# Altium integrated library TI Power Management Linear Regulator Dual Channel LDO.IntLib: 299 symbols (part 6 of 15)
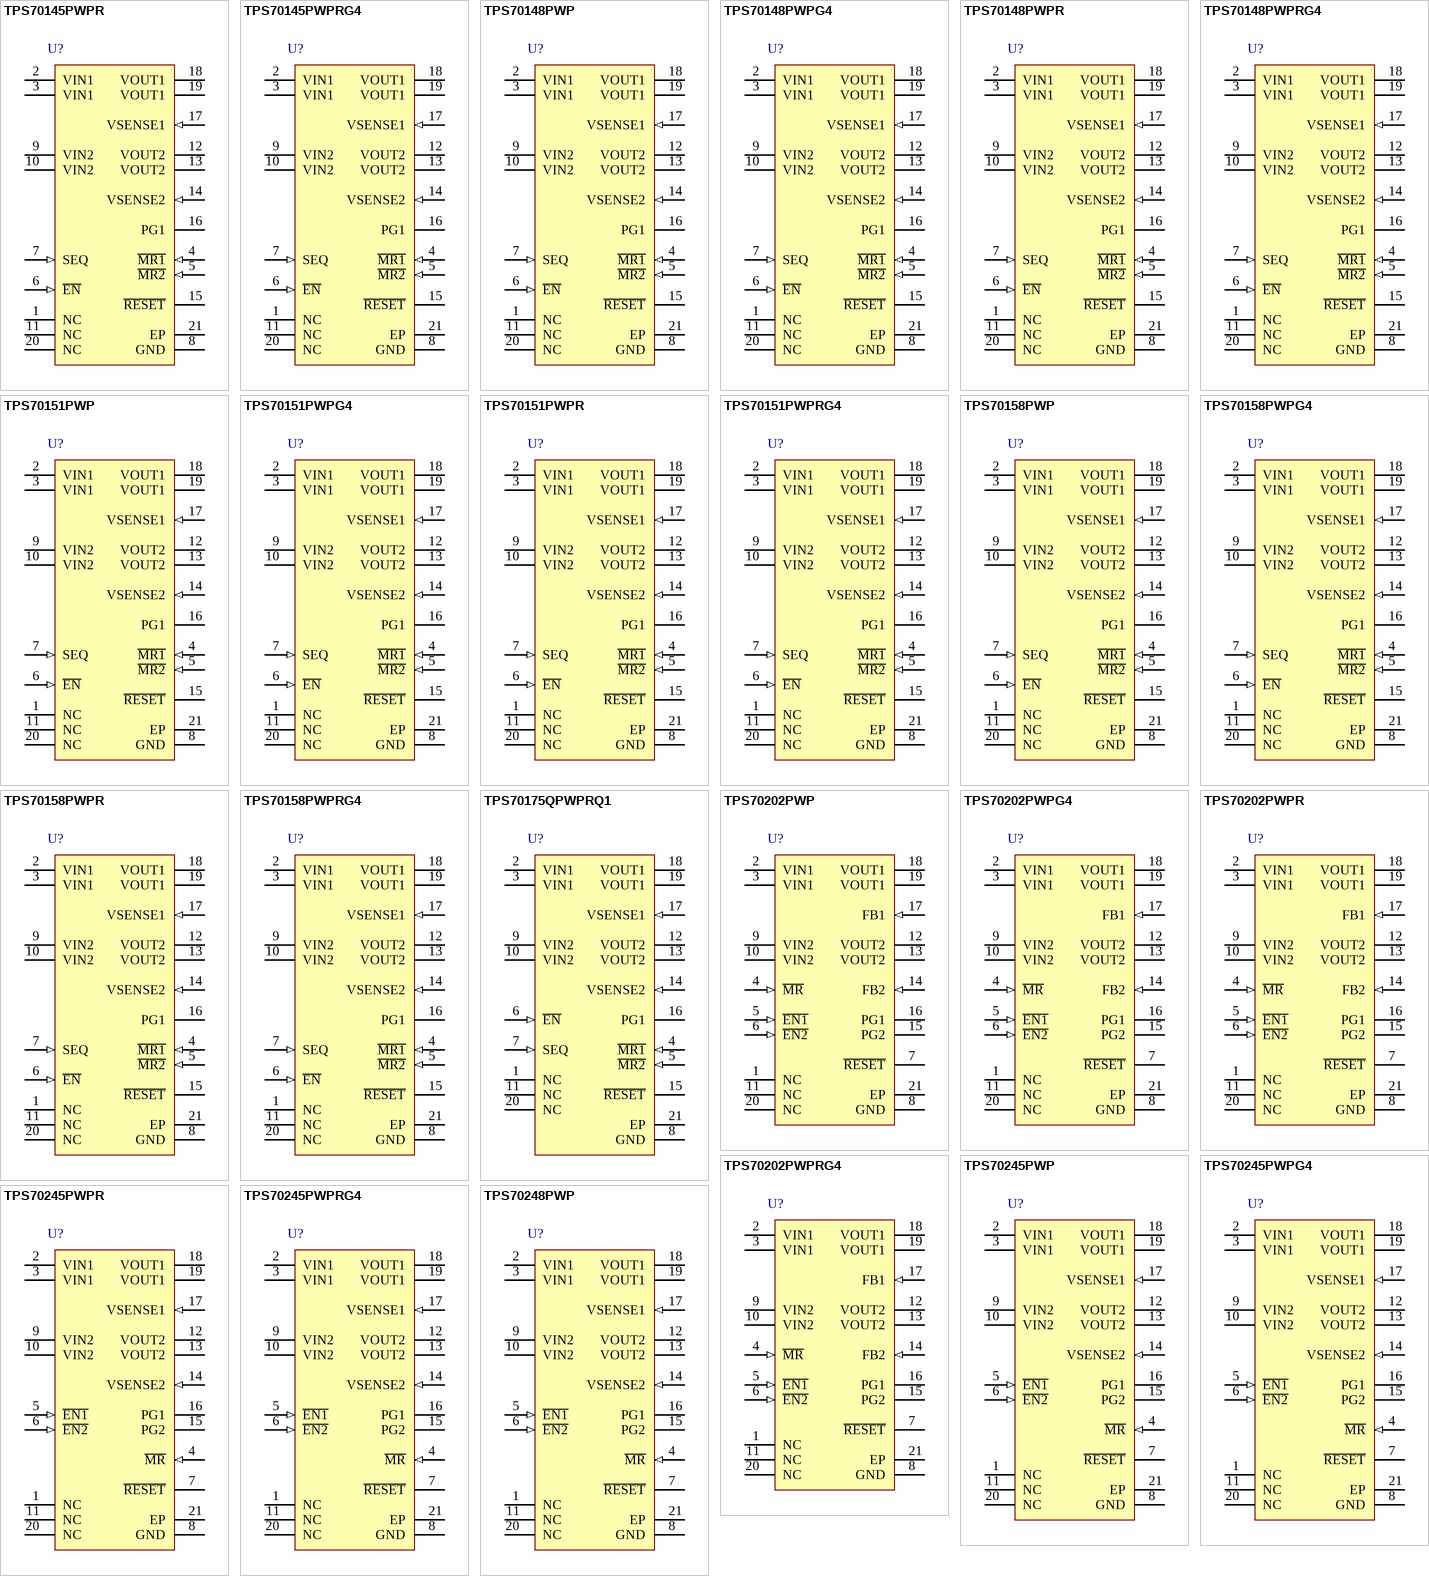
[diagram p16: symbols TPS70145PWPR to TPS70248PWP]

## TPS70148PWPR
designator U?
Dual Output LDO, 500 mA, Fixed 3.3, 1.5 V Output, 2.7 to 6 V Input, 20-pin HTSSOP (PWP), -40 to 125 degC, Green (RoHS & no Sb/Br); Manufacturer: Texas Instruments; PartNumber: TPS70148PWPR; Iout(Max)(A): 0.5; Iout2(A): 0.2; Iq(Typ)(mA): 0.19; SubFamily: Dual Channel LDO; Vdo(Typ)(mV): 170; Vin(Max)(V): 6; Vin(Min)(V): 2.7; Vout(Max)(V): 3.3; Vout2(Max)(V): 1.5; DatasheetVersion: SLVS222I; PackageVersion: 4073225-4/I; PackageReference: PWP20-3005X2005TP; PackageDescription: 20-Pin Plastic Small Outline, Body 6.50 x 4.40 mm, Pitch 0.65 mm; Supplier 1: Digi-Key; Supplier Part Number 1: TPS70148PWPR-ND; Supplier 2: Mouser; Supplier Part Number 2: 595-TPS70148PWPR; Eco-Plan: Green (RoHS & no Sb/Br); Fixed Output Options(V): 3.3, 1.5; Vout(Min)(V): 3.3; Vout2(Min)(V): 1.5; Mounting Technology: Surface Mount; Code_JEDEC: MO-153; ComponentLink1Description: Manufacturer URL; ComponentLink1URL: http://www.ti.com/; ComponentLink2Description: Datasheet; ComponentLink2URL: http://www.ti.com/general/docs/lit/getliterature.tsp?genericPartNumber=TPS70148&fileType=pdf; ComponentLink3Description: Package Specification; ComponentLink3URL: http://www.ti.com/lit/ml/mhts001g/mhts001g.pdf
footprint TI-PWP20-3005X2005TP_N (SOP, 20-Leads, Body 6.5x4.4mm, Pitch 0.65mm, Thermal Pad 3.005 x 2.005mm, IPC Medium Density)
footprint TI-PWP20-3005X2005TP_L (SOP, 20-Leads, Body 6.5x4.4mm, Pitch 0.65mm, Thermal Pad 3.005 x 2.005mm, IPC High Density)
footprint TI-PWP20-3005X2005TP_M (SOP, 20-Leads, Body 6.5x4.4mm, Pitch 0.65mm, Thermal Pad 3.005 x 2.005mm, IPC Low Density)
pins: 1 NC "No connection", 2 VIN1 (power) "Input voltage of regulator 1", 3 VIN1 (power) "Input voltage of regulator 1", 4 ~{MR1} (in) "Manual reset input 1, active low, pulled up internally", 5 ~{MR2} (in) "Manual reset input 2, active low, pulled up internally", 6 ~{EN} (in) "Active low enable", 7 SEQ (in) "Power-up sequence control: SEQ = High, VOUT2 powers up first; SEQ = Low, VOUT1 powers up first. SEQ terminal pulled up internally.", 8 GND (power) "Ground", 9 VIN2 (power) "Input voltage of regulator 2", 10 VIN2 (power) "Input voltage of regulator 2", 11 NC "No connection", 12 VOUT2 (power) "Output voltage of regulator 2", 13 VOUT2 (power) "Output voltage of regulator 2", 14 VSENSE2 (in) "Regulator 2 output voltage sense", 15 ~{RESET} (hiz) "Open drain output, SVS (power-on reset) signal, active low", 16 PG1 (hiz) "Open drain output, low when VOUT1 voltage is less than 95% of the nominal regulated voltage", 17 VSENSE1 (in) "Regulator 1 output voltage sense", 18 VOUT1 (power) "Output voltage of regulator 1", 19 VOUT1 (power) "Output voltage of regulator 1", 20 NC "No connection", 21 EP (power) "Exposed Thermal Pad"

## TPS70148PWPRG4
designator U?
Dual Output LDO, 500 mA, Fixed 3.3, 1.5 V Output, 2.7 to 6 V Input, 20-pin HTSSOP (PWP), -40 to 125 degC, Green (RoHS & no Sb/Br); Manufacturer: Texas Instruments; PartNumber: TPS70148PWPRG4; Iout(Max)(A): 0.5; Iout2(A): 0.2; Iq(Typ)(mA): 0.19; SubFamily: Dual Channel LDO; Vdo(Typ)(mV): 170; Vin(Max)(V): 6; Vin(Min)(V): 2.7; Vout(Max)(V): 3.3; Vout2(Max)(V): 1.5; DatasheetVersion: SLVS222I; PackageVersion: 4073225-4/I; PackageReference: PWP20-3005X2005TP; PackageDescription: 20-Pin Plastic Small Outline, Body 6.50 x 4.40 mm, Pitch 0.65 mm; Supplier 1: Digi-Key; Supplier Part Number 1: TPS70148PWPRG4-ND; Supplier 2: Newark; Supplier Part Number 2: 33K7654; Supplier 3: Mouser; Supplier Part Number 3: 595-TPS70148PWPRG4; Eco-Plan: Green (RoHS & no Sb/Br); Fixed Output Options(V): 3.3, 1.5; Vout(Min)(V): 3.3; Vout2(Min)(V): 1.5; Mounting Technology: Surface Mount; Code_JEDEC: MO-153; ComponentLink1Description: Manufacturer URL; ComponentLink1URL: http://www.ti.com/; ComponentLink2Description: Datasheet; ComponentLink2URL: http://www.ti.com/general/docs/lit/getliterature.tsp?genericPartNumber=TPS70148&fileType=pdf; ComponentLink3Description: Package Specification; ComponentLink3URL: http://www.ti.com/lit/ml/mhts001g/mhts001g.pdf
footprint TI-PWP20-3005X2005TP_N (SOP, 20-Leads, Body 6.5x4.4mm, Pitch 0.65mm, Thermal Pad 3.005 x 2.005mm, IPC Medium Density)
footprint TI-PWP20-3005X2005TP_L (SOP, 20-Leads, Body 6.5x4.4mm, Pitch 0.65mm, Thermal Pad 3.005 x 2.005mm, IPC High Density)
footprint TI-PWP20-3005X2005TP_M (SOP, 20-Leads, Body 6.5x4.4mm, Pitch 0.65mm, Thermal Pad 3.005 x 2.005mm, IPC Low Density)
pins: 1 NC "No connection", 2 VIN1 (power) "Input voltage of regulator 1", 3 VIN1 (power) "Input voltage of regulator 1", 4 ~{MR1} (in) "Manual reset input 1, active low, pulled up internally", 5 ~{MR2} (in) "Manual reset input 2, active low, pulled up internally", 6 ~{EN} (in) "Active low enable", 7 SEQ (in) "Power-up sequence control: SEQ = High, VOUT2 powers up first; SEQ = Low, VOUT1 powers up first. SEQ terminal pulled up internally.", 8 GND (power) "Ground", 9 VIN2 (power) "Input voltage of regulator 2", 10 VIN2 (power) "Input voltage of regulator 2", 11 NC "No connection", 12 VOUT2 (power) "Output voltage of regulator 2", 13 VOUT2 (power) "Output voltage of regulator 2", 14 VSENSE2 (in) "Regulator 2 output voltage sense", 15 ~{RESET} (hiz) "Open drain output, SVS (power-on reset) signal, active low", 16 PG1 (hiz) "Open drain output, low when VOUT1 voltage is less than 95% of the nominal regulated voltage", 17 VSENSE1 (in) "Regulator 1 output voltage sense", 18 VOUT1 (power) "Output voltage of regulator 1", 19 VOUT1 (power) "Output voltage of regulator 1", 20 NC "No connection", 21 EP (power) "Exposed Thermal Pad"

## TPS70151PWP
designator U?
Dual Output LDO, 500 mA, Fixed 3.3, 1.8 V Output, 2.7 to 6 V Input, 20-pin HTSSOP (PWP), -40 to 125 degC, Green (RoHS & no Sb/Br); Manufacturer: Texas Instruments; PartNumber: TPS70151PWP; Iout(Max)(A): 0.5; Iout2(A): 0.2; Iq(Typ)(mA): 0.19; SubFamily: Dual Channel LDO; Vdo(Typ)(mV): 170; Vin(Max)(V): 6; Vin(Min)(V): 2.7; Vout(Max)(V): 3.3; Vout2(Max)(V): 1.8; DatasheetVersion: SLVS222I; PackageVersion: 4073225-4/I; PackageReference: PWP20-3005X2005TP; PackageDescription: 20-Pin Plastic Small Outline, Body 6.50 x 4.40 mm, Pitch 0.65 mm; Supplier 1: Digi-Key; Supplier Part Number 1: 296-2655-5-ND; Supplier 2: Farnell; Supplier Part Number 2: 3858066; Supplier 3: Newark; Supplier Part Number 3: 19C9069; Supplier 4: Mouser; Supplier Part Number 4: 595-TPS70151PWP; Eco-Plan: Green (RoHS & no Sb/Br); Fixed Output Options(V): 3.3, 1.8; Vout(Min)(V): 3.3; Vout2(Min)(V): 1.8; Mounting Technology: Surface Mount; Code_JEDEC: MO-153; ComponentLink1Description: Manufacturer URL; ComponentLink1URL: http://www.ti.com/; ComponentLink2Description: Datasheet; ComponentLink2URL: http://www.ti.com/general/docs/lit/getliterature.tsp?genericPartNumber=TPS70151&fileType=pdf; ComponentLink3Description: Package Specification; ComponentLink3URL: http://www.ti.com/lit/ml/mhts001g/mhts001g.pdf
footprint TI-PWP20-3005X2005TP_N (SOP, 20-Leads, Body 6.5x4.4mm, Pitch 0.65mm, Thermal Pad 3.005 x 2.005mm, IPC Medium Density)
footprint TI-PWP20-3005X2005TP_L (SOP, 20-Leads, Body 6.5x4.4mm, Pitch 0.65mm, Thermal Pad 3.005 x 2.005mm, IPC High Density)
footprint TI-PWP20-3005X2005TP_M (SOP, 20-Leads, Body 6.5x4.4mm, Pitch 0.65mm, Thermal Pad 3.005 x 2.005mm, IPC Low Density)
pins: 1 NC "No connection", 2 VIN1 (power) "Input voltage of regulator 1", 3 VIN1 (power) "Input voltage of regulator 1", 4 ~{MR1} (in) "Manual reset input 1, active low, pulled up internally", 5 ~{MR2} (in) "Manual reset input 2, active low, pulled up internally", 6 ~{EN} (in) "Active low enable", 7 SEQ (in) "Power-up sequence control: SEQ = High, VOUT2 powers up first; SEQ = Low, VOUT1 powers up first. SEQ terminal pulled up internally.", 8 GND (power) "Ground", 9 VIN2 (power) "Input voltage of regulator 2", 10 VIN2 (power) "Input voltage of regulator 2", 11 NC "No connection", 12 VOUT2 (power) "Output voltage of regulator 2", 13 VOUT2 (power) "Output voltage of regulator 2", 14 VSENSE2 (in) "Regulator 2 output voltage sense", 15 ~{RESET} (hiz) "Open drain output, SVS (power-on reset) signal, active low", 16 PG1 (hiz) "Open drain output, low when VOUT1 voltage is less than 95% of the nominal regulated voltage", 17 VSENSE1 (in) "Regulator 1 output voltage sense", 18 VOUT1 (power) "Output voltage of regulator 1", 19 VOUT1 (power) "Output voltage of regulator 1", 20 NC "No connection", 21 EP "Exposed Thermal Pad"

## TPS70151PWPG4
designator U?
Dual Output LDO, 500 mA, Fixed 3.3, 1.8 V Output, 2.7 to 6 V Input, 20-pin HTSSOP (PWP), -40 to 125 degC, Green (RoHS & no Sb/Br); Manufacturer: Texas Instruments; PartNumber: TPS70151PWPG4; Iout(Max)(A): 0.5; Iout2(A): 0.2; Iq(Typ)(mA): 0.19; SubFamily: Dual Channel LDO; Vdo(Typ)(mV): 170; Vin(Max)(V): 6; Vin(Min)(V): 2.7; Vout(Max)(V): 3.3; Vout2(Max)(V): 1.8; DatasheetVersion: SLVS222I; PackageVersion: 4073225-4/I; PackageReference: PWP20-3005X2005TP; PackageDescription: 20-Pin Plastic Small Outline, Body 6.50 x 4.40 mm, Pitch 0.65 mm; Supplier 1: Digi-Key; Supplier Part Number 1: TPS70151PWPG4-ND; Supplier 2: Farnell; Supplier Part Number 2: 1234736; Supplier 3: Newark; Supplier Part Number 3: 13M3295; Supplier 4: Newark; Supplier Part Number 4: 54K1758; Supplier 5: Mouser; Supplier Part Number 5: 595-TPS70151PWPG4; Eco-Plan: Green (RoHS & no Sb/Br); Fixed Output Options(V): 3.3, 1.8; Vout(Min)(V): 3.3; Vout2(Min)(V): 1.8; Mounting Technology: Surface Mount; Code_JEDEC: MO-153; ComponentLink1Description: Manufacturer URL; ComponentLink1URL: http://www.ti.com/; ComponentLink2Description: Datasheet; ComponentLink2URL: http://www.ti.com/general/docs/lit/getliterature.tsp?genericPartNumber=TPS70151&fileType=pdf; ComponentLink3Description: Package Specification; ComponentLink3URL: http://www.ti.com/lit/ml/mhts001g/mhts001g.pdf
footprint TI-PWP20-3005X2005TP_N (SOP, 20-Leads, Body 6.5x4.4mm, Pitch 0.65mm, Thermal Pad 3.005 x 2.005mm, IPC Medium Density)
footprint TI-PWP20-3005X2005TP_L (SOP, 20-Leads, Body 6.5x4.4mm, Pitch 0.65mm, Thermal Pad 3.005 x 2.005mm, IPC High Density)
footprint TI-PWP20-3005X2005TP_M (SOP, 20-Leads, Body 6.5x4.4mm, Pitch 0.65mm, Thermal Pad 3.005 x 2.005mm, IPC Low Density)
pins: 1 NC "No connection", 2 VIN1 (power) "Input voltage of regulator 1", 3 VIN1 (power) "Input voltage of regulator 1", 4 ~{MR1} (in) "Manual reset input 1, active low, pulled up internally", 5 ~{MR2} (in) "Manual reset input 2, active low, pulled up internally", 6 ~{EN} (in) "Active low enable", 7 SEQ (in) "Power-up sequence control: SEQ = High, VOUT2 powers up first; SEQ = Low, VOUT1 powers up first. SEQ terminal pulled up internally.", 8 GND (power) "Ground", 9 VIN2 (power) "Input voltage of regulator 2", 10 VIN2 (power) "Input voltage of regulator 2", 11 NC "No connection", 12 VOUT2 (power) "Output voltage of regulator 2", 13 VOUT2 (power) "Output voltage of regulator 2", 14 VSENSE2 (in) "Regulator 2 output voltage sense", 15 ~{RESET} (hiz) "Open drain output, SVS (power-on reset) signal, active low", 16 PG1 (hiz) "Open drain output, low when VOUT1 voltage is less than 95% of the nominal regulated voltage", 17 VSENSE1 (in) "Regulator 1 output voltage sense", 18 VOUT1 (power) "Output voltage of regulator 1", 19 VOUT1 (power) "Output voltage of regulator 1", 20 NC "No connection", 21 EP "Exposed Thermal Pad"

## TPS70151PWPR
designator U?
Dual Output LDO, 500 mA, Fixed 3.3, 1.8 V Output, 2.7 to 6 V Input, 20-pin HTSSOP (PWP), -40 to 125 degC, Green (RoHS & no Sb/Br); Manufacturer: Texas Instruments; PartNumber: TPS70151PWPR; Iout(Max)(A): 0.5; Iout2(A): 0.2; Iq(Typ)(mA): 0.19; SubFamily: Dual Channel LDO; Vdo(Typ)(mV): 170; Vin(Max)(V): 6; Vin(Min)(V): 2.7; Vout(Max)(V): 3.3; Vout2(Max)(V): 1.8; DatasheetVersion: SLVS222I; PackageVersion: 4073225-4/I; PackageReference: PWP20-3005X2005TP; PackageDescription: 20-Pin Plastic Small Outline, Body 6.50 x 4.40 mm, Pitch 0.65 mm; Supplier 1: Digi-Key; Supplier Part Number 1: 296-27039-2-ND; Supplier 2: Digi-Key; Supplier Part Number 2: 296-27039-1-ND; Supplier 3: Digi-Key; Supplier Part Number 3: 296-27039-6-ND; Supplier 4: Newark; Supplier Part Number 4: 77C0747; Supplier 5: Mouser; Supplier Part Number 5: 595-TPS70151PWPR; Eco-Plan: Green (RoHS & no Sb/Br); Fixed Output Options(V): 3.3, 1.8; Vout(Min)(V): 3.3; Vout2(Min)(V): 1.8; Mounting Technology: Surface Mount; Code_JEDEC: MO-153; ComponentLink1Description: Manufacturer URL; ComponentLink1URL: http://www.ti.com/; ComponentLink2Description: Datasheet; ComponentLink2URL: http://www.ti.com/general/docs/lit/getliterature.tsp?genericPartNumber=TPS70151&fileType=pdf; ComponentLink3Description: Package Specification; ComponentLink3URL: http://www.ti.com/lit/ml/mhts001g/mhts001g.pdf
footprint TI-PWP20-3005X2005TP_N (SOP, 20-Leads, Body 6.5x4.4mm, Pitch 0.65mm, Thermal Pad 3.005 x 2.005mm, IPC Medium Density)
footprint TI-PWP20-3005X2005TP_L (SOP, 20-Leads, Body 6.5x4.4mm, Pitch 0.65mm, Thermal Pad 3.005 x 2.005mm, IPC High Density)
footprint TI-PWP20-3005X2005TP_M (SOP, 20-Leads, Body 6.5x4.4mm, Pitch 0.65mm, Thermal Pad 3.005 x 2.005mm, IPC Low Density)
pins: 1 NC "No connection", 2 VIN1 (power) "Input voltage of regulator 1", 3 VIN1 (power) "Input voltage of regulator 1", 4 ~{MR1} (in) "Manual reset input 1, active low, pulled up internally", 5 ~{MR2} (in) "Manual reset input 2, active low, pulled up internally", 6 ~{EN} (in) "Active low enable", 7 SEQ (in) "Power-up sequence control: SEQ = High, VOUT2 powers up first; SEQ = Low, VOUT1 powers up first. SEQ terminal pulled up internally.", 8 GND (power) "Ground", 9 VIN2 (power) "Input voltage of regulator 2", 10 VIN2 (power) "Input voltage of regulator 2", 11 NC "No connection", 12 VOUT2 (power) "Output voltage of regulator 2", 13 VOUT2 (power) "Output voltage of regulator 2", 14 VSENSE2 (in) "Regulator 2 output voltage sense", 15 ~{RESET} (hiz) "Open drain output, SVS (power-on reset) signal, active low", 16 PG1 (hiz) "Open drain output, low when VOUT1 voltage is less than 95% of the nominal regulated voltage", 17 VSENSE1 (in) "Regulator 1 output voltage sense", 18 VOUT1 (power) "Output voltage of regulator 1", 19 VOUT1 (power) "Output voltage of regulator 1", 20 NC "No connection", 21 EP "Exposed Thermal Pad"

## TPS70151PWPRG4
designator U?
Dual Output LDO, 500 mA, Fixed 3.3, 1.8 V Output, 2.7 to 6 V Input, 20-pin HTSSOP (PWP), -40 to 125 degC, Green (RoHS & no Sb/Br); Manufacturer: Texas Instruments; PartNumber: TPS70151PWPRG4; Iout(Max)(A): 0.5; Iout2(A): 0.2; Iq(Typ)(mA): 0.19; SubFamily: Dual Channel LDO; Vdo(Typ)(mV): 170; Vin(Max)(V): 6; Vin(Min)(V): 2.7; Vout(Max)(V): 3.3; Vout2(Max)(V): 1.8; DatasheetVersion: SLVS222I; PackageVersion: 4073225-4/I; PackageReference: PWP20-3005X2005TP; PackageDescription: 20-Pin Plastic Small Outline, Body 6.50 x 4.40 mm, Pitch 0.65 mm; Supplier 1: Digi-Key; Supplier Part Number 1: TPS70151PWPRG4-ND; Supplier 2: Mouser; Supplier Part Number 2: 595-TPS70151PWPRG4; Eco-Plan: Green (RoHS & no Sb/Br); Fixed Output Options(V): 3.3, 1.8; Vout(Min)(V): 3.3; Vout2(Min)(V): 1.8; Mounting Technology: Surface Mount; Code_JEDEC: MO-153; ComponentLink1Description: Manufacturer URL; ComponentLink1URL: http://www.ti.com/; ComponentLink2Description: Datasheet; ComponentLink2URL: http://www.ti.com/general/docs/lit/getliterature.tsp?genericPartNumber=TPS70151&fileType=pdf; ComponentLink3Description: Package Specification; ComponentLink3URL: http://www.ti.com/lit/ml/mhts001g/mhts001g.pdf
footprint TI-PWP20-3005X2005TP_N (SOP, 20-Leads, Body 6.5x4.4mm, Pitch 0.65mm, Thermal Pad 3.005 x 2.005mm, IPC Medium Density)
footprint TI-PWP20-3005X2005TP_L (SOP, 20-Leads, Body 6.5x4.4mm, Pitch 0.65mm, Thermal Pad 3.005 x 2.005mm, IPC High Density)
footprint TI-PWP20-3005X2005TP_M (SOP, 20-Leads, Body 6.5x4.4mm, Pitch 0.65mm, Thermal Pad 3.005 x 2.005mm, IPC Low Density)
pins: 1 NC "No connection", 2 VIN1 (power) "Input voltage of regulator 1", 3 VIN1 (power) "Input voltage of regulator 1", 4 ~{MR1} (in) "Manual reset input 1, active low, pulled up internally", 5 ~{MR2} (in) "Manual reset input 2, active low, pulled up internally", 6 ~{EN} (in) "Active low enable", 7 SEQ (in) "Power-up sequence control: SEQ = High, VOUT2 powers up first; SEQ = Low, VOUT1 powers up first. SEQ terminal pulled up internally.", 8 GND (power) "Ground", 9 VIN2 (power) "Input voltage of regulator 2", 10 VIN2 (power) "Input voltage of regulator 2", 11 NC "No connection", 12 VOUT2 (power) "Output voltage of regulator 2", 13 VOUT2 (power) "Output voltage of regulator 2", 14 VSENSE2 (in) "Regulator 2 output voltage sense", 15 ~{RESET} (hiz) "Open drain output, SVS (power-on reset) signal, active low", 16 PG1 (hiz) "Open drain output, low when VOUT1 voltage is less than 95% of the nominal regulated voltage", 17 VSENSE1 (in) "Regulator 1 output voltage sense", 18 VOUT1 (power) "Output voltage of regulator 1", 19 VOUT1 (power) "Output voltage of regulator 1", 20 NC "No connection", 21 EP "Exposed Thermal Pad"

## TPS70158PWP
designator U?
Dual Output LDO, 500 mA, Fixed 3.3, 2.5 V Output, 2.7 to 6 V Input, 20-pin HTSSOP (PWP), -40 to 125 degC, Green (RoHS & no Sb/Br); Manufacturer: Texas Instruments; PartNumber: TPS70158PWP; Iout(Max)(A): 0.5; Iout2(A): 0.2; Iq(Typ)(mA): 0.19; SubFamily: Dual Channel LDO; Vdo(Typ)(mV): 170; Vin(Max)(V): 6; Vin(Min)(V): 2.7; Vout(Max)(V): 3.3; Vout2(Max)(V): 2.5; DatasheetVersion: SLVS222I; PackageVersion: 4073225-4/I; PackageReference: PWP20-3005X2005TP; PackageDescription: 20-Pin Plastic Small Outline, Body 6.50 x 4.40 mm, Pitch 0.65 mm; Supplier 1: Digi-Key; Supplier Part Number 1: 296-2656-5-ND; Supplier 2: Newark; Supplier Part Number 2: 74K3981; Supplier 3: Mouser; Supplier Part Number 3: 595-TPS70158PWP; Eco-Plan: Green (RoHS & no Sb/Br); Fixed Output Options(V): 3.3, 2.5; Vout(Min)(V): 3.3; Vout2(Min)(V): 2.5; Mounting Technology: Surface Mount; Code_JEDEC: MO-153; ComponentLink1Description: Manufacturer URL; ComponentLink1URL: http://www.ti.com/; ComponentLink2Description: Datasheet; ComponentLink2URL: http://www.ti.com/general/docs/lit/getliterature.tsp?genericPartNumber=TPS70158&fileType=pdf; ComponentLink3Description: Package Specification; ComponentLink3URL: http://www.ti.com/lit/ml/mhts001g/mhts001g.pdf
footprint TI-PWP20-3005X2005TP_N (SOP, 20-Leads, Body 6.5x4.4mm, Pitch 0.65mm, Thermal Pad 3.005 x 2.005mm, IPC Medium Density)
footprint TI-PWP20-3005X2005TP_L (SOP, 20-Leads, Body 6.5x4.4mm, Pitch 0.65mm, Thermal Pad 3.005 x 2.005mm, IPC High Density)
footprint TI-PWP20-3005X2005TP_M (SOP, 20-Leads, Body 6.5x4.4mm, Pitch 0.65mm, Thermal Pad 3.005 x 2.005mm, IPC Low Density)
pins: 1 NC "No connection", 2 VIN1 (power) "Input voltage of regulator 1", 3 VIN1 (power) "Input voltage of regulator 1", 4 ~{MR1} (in) "Manual reset input 1, active low, pulled up internally", 5 ~{MR2} (in) "Manual reset input 2, active low, pulled up internally", 6 ~{EN} (in) "Active low enable", 7 SEQ (in) "Power-up sequence control: SEQ = High, VOUT2 powers up first; SEQ = Low, VOUT1 powers up first. SEQ terminal pulled up internally.", 8 GND (power) "Ground", 9 VIN2 (power) "Input voltage of regulator 2", 10 VIN2 (power) "Input voltage of regulator 2", 11 NC "No connection", 12 VOUT2 (power) "Output voltage of regulator 2", 13 VOUT2 (power) "Output voltage of regulator 2", 14 VSENSE2 (in) "Regulator 2 output voltage sense", 15 ~{RESET} (hiz) "Open drain output, SVS (power-on reset) signal, active low", 16 PG1 (hiz) "Open drain output, low when VOUT1 voltage is less than 95% of the nominal regulated voltage", 17 VSENSE1 (in) "Regulator 1 output voltage sense", 18 VOUT1 (power) "Output voltage of regulator 1", 19 VOUT1 (power) "Output voltage of regulator 1", 20 NC "No connection", 21 EP "Exposed Thermal Pad"

## TPS70158PWPG4
designator U?
Dual Output LDO, 500 mA, Fixed 3.3, 2.5 V Output, 2.7 to 6 V Input, 20-pin HTSSOP (PWP), -40 to 125 degC, Green (RoHS & no Sb/Br); Manufacturer: Texas Instruments; PartNumber: TPS70158PWPG4; Iout(Max)(A): 0.5; Iout2(A): 0.2; Iq(Typ)(mA): 0.19; SubFamily: Dual Channel LDO; Vdo(Typ)(mV): 170; Vin(Max)(V): 6; Vin(Min)(V): 2.7; Vout(Max)(V): 3.3; Vout2(Max)(V): 2.5; DatasheetVersion: SLVS222I; PackageVersion: 4073225-4/I; PackageReference: PWP20-3005X2005TP; PackageDescription: 20-Pin Plastic Small Outline, Body 6.50 x 4.40 mm, Pitch 0.65 mm; Supplier 1: Digi-Key; Supplier Part Number 1: TPS70158PWPG4-ND; Supplier 2: Farnell; Supplier Part Number 2: 1234927; Supplier 3: Newark; Supplier Part Number 3: 13M3296; Supplier 4: Mouser; Supplier Part Number 4: 595-TPS70158PWPG4; Eco-Plan: Green (RoHS & no Sb/Br); Fixed Output Options(V): 3.3, 2.5; Vout(Min)(V): 3.3; Vout2(Min)(V): 2.5; Mounting Technology: Surface Mount; Code_JEDEC: MO-153; ComponentLink1Description: Manufacturer URL; ComponentLink1URL: http://www.ti.com/; ComponentLink2Description: Datasheet; ComponentLink2URL: http://www.ti.com/general/docs/lit/getliterature.tsp?genericPartNumber=TPS70158&fileType=pdf; ComponentLink3Description: Package Specification; ComponentLink3URL: http://www.ti.com/lit/ml/mhts001g/mhts001g.pdf
footprint TI-PWP20-3005X2005TP_N (SOP, 20-Leads, Body 6.5x4.4mm, Pitch 0.65mm, Thermal Pad 3.005 x 2.005mm, IPC Medium Density)
footprint TI-PWP20-3005X2005TP_L (SOP, 20-Leads, Body 6.5x4.4mm, Pitch 0.65mm, Thermal Pad 3.005 x 2.005mm, IPC High Density)
footprint TI-PWP20-3005X2005TP_M (SOP, 20-Leads, Body 6.5x4.4mm, Pitch 0.65mm, Thermal Pad 3.005 x 2.005mm, IPC Low Density)
pins: 1 NC "No connection", 2 VIN1 (power) "Input voltage of regulator 1", 3 VIN1 (power) "Input voltage of regulator 1", 4 ~{MR1} (in) "Manual reset input 1, active low, pulled up internally", 5 ~{MR2} (in) "Manual reset input 2, active low, pulled up internally", 6 ~{EN} (in) "Active low enable", 7 SEQ (in) "Power-up sequence control: SEQ = High, VOUT2 powers up first; SEQ = Low, VOUT1 powers up first. SEQ terminal pulled up internally.", 8 GND (power) "Ground", 9 VIN2 (power) "Input voltage of regulator 2", 10 VIN2 (power) "Input voltage of regulator 2", 11 NC "No connection", 12 VOUT2 (power) "Output voltage of regulator 2", 13 VOUT2 (power) "Output voltage of regulator 2", 14 VSENSE2 (in) "Regulator 2 output voltage sense", 15 ~{RESET} (hiz) "Open drain output, SVS (power-on reset) signal, active low", 16 PG1 (hiz) "Open drain output, low when VOUT1 voltage is less than 95% of the nominal regulated voltage", 17 VSENSE1 (in) "Regulator 1 output voltage sense", 18 VOUT1 (power) "Output voltage of regulator 1", 19 VOUT1 (power) "Output voltage of regulator 1", 20 NC "No connection", 21 EP "Exposed Thermal Pad"

## TPS70158PWPR
designator U?
Dual Output LDO, 500 mA, Fixed 3.3, 2.5 V Output, 2.7 to 6 V Input, 20-pin HTSSOP (PWP), -40 to 125 degC, Green (RoHS & no Sb/Br); Manufacturer: Texas Instruments; PartNumber: TPS70158PWPR; Iout(Max)(A): 0.5; Iout2(A): 0.2; Iq(Typ)(mA): 0.19; SubFamily: Dual Channel LDO; Vdo(Typ)(mV): 170; Vin(Max)(V): 6; Vin(Min)(V): 2.7; Vout(Max)(V): 3.3; Vout2(Max)(V): 2.5; DatasheetVersion: SLVS222I; PackageVersion: 4073225-4/I; PackageReference: PWP20-3005X2005TP; PackageDescription: 20-Pin Plastic Small Outline, Body 6.50 x 4.40 mm, Pitch 0.65 mm; Supplier 1: Digi-Key; Supplier Part Number 1: TPS70158PWPR-ND; Supplier 2: Mouser; Supplier Part Number 2: 595-TPS70158PWPR; Eco-Plan: Green (RoHS & no Sb/Br); Fixed Output Options(V): 3.3, 2.5; Vout(Min)(V): 3.3; Vout2(Min)(V): 2.5; Mounting Technology: Surface Mount; Code_JEDEC: MO-153; ComponentLink1Description: Manufacturer URL; ComponentLink1URL: http://www.ti.com/; ComponentLink2Description: Datasheet; ComponentLink2URL: http://www.ti.com/general/docs/lit/getliterature.tsp?genericPartNumber=TPS70158&fileType=pdf; ComponentLink3Description: Package Specification; ComponentLink3URL: http://www.ti.com/lit/ml/mhts001g/mhts001g.pdf
footprint TI-PWP20-3005X2005TP_N (SOP, 20-Leads, Body 6.5x4.4mm, Pitch 0.65mm, Thermal Pad 3.005 x 2.005mm, IPC Medium Density)
footprint TI-PWP20-3005X2005TP_L (SOP, 20-Leads, Body 6.5x4.4mm, Pitch 0.65mm, Thermal Pad 3.005 x 2.005mm, IPC High Density)
footprint TI-PWP20-3005X2005TP_M (SOP, 20-Leads, Body 6.5x4.4mm, Pitch 0.65mm, Thermal Pad 3.005 x 2.005mm, IPC Low Density)
pins: 1 NC "No connection", 2 VIN1 (power) "Input voltage of regulator 1", 3 VIN1 (power) "Input voltage of regulator 1", 4 ~{MR1} (in) "Manual reset input 1, active low, pulled up internally", 5 ~{MR2} (in) "Manual reset input 2, active low, pulled up internally", 6 ~{EN} (in) "Active low enable", 7 SEQ (in) "Power-up sequence control: SEQ = High, VOUT2 powers up first; SEQ = Low, VOUT1 powers up first. SEQ terminal pulled up internally.", 8 GND (power) "Ground", 9 VIN2 (power) "Input voltage of regulator 2", 10 VIN2 (power) "Input voltage of regulator 2", 11 NC "No connection", 12 VOUT2 (power) "Output voltage of regulator 2", 13 VOUT2 (power) "Output voltage of regulator 2", 14 VSENSE2 (in) "Regulator 2 output voltage sense", 15 ~{RESET} (hiz) "Open drain output, SVS (power-on reset) signal, active low", 16 PG1 (hiz) "Open drain output, low when VOUT1 voltage is less than 95% of the nominal regulated voltage", 17 VSENSE1 (in) "Regulator 1 output voltage sense", 18 VOUT1 (power) "Output voltage of regulator 1", 19 VOUT1 (power) "Output voltage of regulator 1", 20 NC "No connection", 21 EP "Exposed Thermal Pad"

## TPS70158PWPRG4
designator U?
Dual Output LDO, 500 mA, Fixed 3.3, 2.5 V Output, 2.7 to 6 V Input, 20-pin HTSSOP (PWP), -40 to 125 degC, Green (RoHS & no Sb/Br); Manufacturer: Texas Instruments; PartNumber: TPS70158PWPRG4; Iout(Max)(A): 0.5; Iout2(A): 0.2; Iq(Typ)(mA): 0.19; SubFamily: Dual Channel LDO; Vdo(Typ)(mV): 170; Vin(Max)(V): 6; Vin(Min)(V): 2.7; Vout(Max)(V): 3.3; Vout2(Max)(V): 2.5; DatasheetVersion: SLVS222I; PackageVersion: 4073225-4/I; PackageReference: PWP20-3005X2005TP; PackageDescription: 20-Pin Plastic Small Outline, Body 6.50 x 4.40 mm, Pitch 0.65 mm; Supplier 1: Digi-Key; Supplier Part Number 1: TPS70158PWPRG4-ND; Supplier 2: Mouser; Supplier Part Number 2: 595-TPS70158PWPRG4; Eco-Plan: Green (RoHS & no Sb/Br); Fixed Output Options(V): 3.3, 2.5; Vout(Min)(V): 3.3; Vout2(Min)(V): 2.5; Mounting Technology: Surface Mount; Code_JEDEC: MO-153; ComponentLink1Description: Manufacturer URL; ComponentLink1URL: http://www.ti.com/; ComponentLink2Description: Datasheet; ComponentLink2URL: http://www.ti.com/general/docs/lit/getliterature.tsp?genericPartNumber=TPS70158&fileType=pdf; ComponentLink3Description: Package Specification; ComponentLink3URL: http://www.ti.com/lit/ml/mhts001g/mhts001g.pdf
footprint TI-PWP20-3005X2005TP_N (SOP, 20-Leads, Body 6.5x4.4mm, Pitch 0.65mm, Thermal Pad 3.005 x 2.005mm, IPC Medium Density)
footprint TI-PWP20-3005X2005TP_L (SOP, 20-Leads, Body 6.5x4.4mm, Pitch 0.65mm, Thermal Pad 3.005 x 2.005mm, IPC High Density)
footprint TI-PWP20-3005X2005TP_M (SOP, 20-Leads, Body 6.5x4.4mm, Pitch 0.65mm, Thermal Pad 3.005 x 2.005mm, IPC Low Density)
pins: 1 NC "No connection", 2 VIN1 (power) "Input voltage of regulator 1", 3 VIN1 (power) "Input voltage of regulator 1", 4 ~{MR1} (in) "Manual reset input 1, active low, pulled up internally", 5 ~{MR2} (in) "Manual reset input 2, active low, pulled up internally", 6 ~{EN} (in) "Active low enable", 7 SEQ (in) "Power-up sequence control: SEQ = High, VOUT2 powers up first; SEQ = Low, VOUT1 powers up first. SEQ terminal pulled up internally.", 8 GND (power) "Ground", 9 VIN2 (power) "Input voltage of regulator 2", 10 VIN2 (power) "Input voltage of regulator 2", 11 NC "No connection", 12 VOUT2 (power) "Output voltage of regulator 2", 13 VOUT2 (power) "Output voltage of regulator 2", 14 VSENSE2 (in) "Regulator 2 output voltage sense", 15 ~{RESET} (hiz) "Open drain output, SVS (power-on reset) signal, active low", 16 PG1 (hiz) "Open drain output, low when VOUT1 voltage is less than 95% of the nominal regulated voltage", 17 VSENSE1 (in) "Regulator 1 output voltage sense", 18 VOUT1 (power) "Output voltage of regulator 1", 19 VOUT1 (power) "Output voltage of regulator 1", 20 NC "No connection", 21 EP "Exposed Thermal Pad"

## TPS70175QPWPRQ1
designator U?
Dual Output Automotive LDO, 500 mA, Fixed 5, 2.5 V Output, 2.7 to 6 V Input, 20-pin HTSSOP (PWP), -40 to 125 degC, Green (RoHS & no Sb/Br); Manufacturer: Texas Instruments; PartNumber: TPS70175QPWPRQ1; Fixed Output Options(V): 5, 2.5; Iout(Max)(A): 0.5; Iout2(A): 0.2; Iq(Typ)(mA): 0.19; SubFamily: Dual Channel LDO; Vdo(Typ)(mV): 170; Vin(Max)(V): 6; Vin(Min)(V): 2.7; Vout(Max)(V): 2.5; Vout(Min)(V): 2.4; Vout2(Max)(V): 5; DatasheetVersion: SGLS300B; PackageVersion: 4073225-4/I; PackageReference: PWP20-3005X2005TP; PackageDescription: 20-Pin Plastic Small Outline, Body 6.50 x 4.40 mm, Pitch 0.65 mm; Supplier 1: Digi-Key; Supplier Part Number 1: TPS70175QPWPRQ1-ND; Supplier 2: Mouser; Supplier Part Number 2: 595-TPS70175QPWPRQ1; Eco-Plan: Green (RoHS & no Sb/Br); Vout2(Min)(V): 5; Mounting Technology: Surface Mount; Code_JEDEC: MO-153; ComponentLink1Description: Manufacturer URL; ComponentLink1URL: http://www.ti.com/; ComponentLink2Description: Datasheet; ComponentLink2URL: http://www.ti.com/general/docs/lit/getliterature.tsp?genericPartNumber=TPS70175-Q1&fileType=pdf; ComponentLink3Description: Package Specification; ComponentLink3URL: http://www.ti.com/lit/ml/mhts001g/mhts001g.pdf
footprint TI-PWP20-3005X2005TP_N (SOP, 20-Leads, Body 6.5x4.4mm, Pitch 0.65mm, Thermal Pad 3.005 x 2.005mm, IPC Medium Density)
footprint TI-PWP20-3005X2005TP_L (SOP, 20-Leads, Body 6.5x4.4mm, Pitch 0.65mm, Thermal Pad 3.005 x 2.005mm, IPC High Density)
footprint TI-PWP20-3005X2005TP_M (SOP, 20-Leads, Body 6.5x4.4mm, Pitch 0.65mm, Thermal Pad 3.005 x 2.005mm, IPC Low Density)
pins: 1 NC "No connection", 2 VIN1 (power) "Input voltage of regulator 1", 3 VIN1 (power) "Input voltage of regulator 1", 4 ~{MR1} (in) "Manual reset input 1, active low, pulled up internally", 5 ~{MR2} (in) "Manual reset input 2, active low, pulled up internally", 6 ~{EN} (in) "Active low enable", 7 SEQ (in) "Power-up sequence control: SEQ = High, VOUT2 powers up first; SEQ = Low, VOUT1 powers up first, SEQ terminal pulled up internally.", 8 GND (power) "Ground", 9 VIN2 (power) "Input voltage of regulator 2", 10 VIN2 (power) "Input voltage of regulator 2", 11 NC "No connection", 12 VOUT2 (power) "Output voltage of regulator 2", 13 VOUT2 (power) "Output voltage of regulator 2", 14 VSENSE2 (in) "Regulator 2 output voltage sense", 15 ~{RESET} (hiz) "Open drain output, SVS (power-on reset) signal, active low", 16 PG1 (hiz) "Open drain output, low when VOUT1 voltage is less than 95% of the nominal regulated voltage", 17 VSENSE1 (in) "Regulator 1 output voltage sense", 18 VOUT1 (power) "Output voltage of regulator 1", 19 VOUT1 (power) "Output voltage of regulator 1", 20 NC "No connection", 21 EP "Exposed Thermal Pad"

## TPS70202PWP
designator U?
Dual Output LDO, 500 mA, 2.7 to 6 V Input, 20-pin HTSSOP (PWP), -40 to 125 degC, Green (RoHS & no Sb/Br); Manufacturer: Texas Instruments; PartNumber: TPS70202PWP; Iout(Max)(A): 0.5; Iout2(A): 0.2; Iq(Typ)(mA): 0.19; SubFamily: Dual Channel LDO; Vdo(Typ)(mV): 170; Vin(Max)(V): 6; Vin(Min)(V): 2.7; Vout2(Max)(V): 5.5; Vout2(Min)(V): 1.2; DatasheetVersion: SLVS286E; PackageVersion: 4073225-4/I; PackageReference: PWP20-3005X2005TP; PackageDescription: 20-Pin Plastic Small Outline, Body 6.50 x 4.40 mm, Pitch 0.65 mm; Supplier 1: Digi-Key; Supplier Part Number 1: 296-8016-5-ND; Supplier 2: Newark; Supplier Part Number 2: 77C0749; Supplier 3: Mouser; Supplier Part Number 3: 595-TPS70202PWP; Eco-Plan: Green (RoHS & no Sb/Br); Mounting Technology: Surface Mount; Code_JEDEC: MO-153; ComponentLink1Description: Manufacturer URL; ComponentLink1URL: http://www.ti.com/; ComponentLink2Description: Datasheet; ComponentLink2URL: http://www.ti.com/general/docs/lit/getliterature.tsp?genericPartNumber=TPS70202&fileType=pdf; ComponentLink3Description: Package Specification; ComponentLink3URL: http://www.ti.com/lit/ml/mhts001g/mhts001g.pdf
footprint TI-PWP20-3005X2005TP_N (SOP, 20-Leads, Body 6.5x4.4mm, Pitch 0.65mm, Thermal Pad 3.005 x 2.005mm, IPC Medium Density)
footprint TI-PWP20-3005X2005TP_L (SOP, 20-Leads, Body 6.5x4.4mm, Pitch 0.65mm, Thermal Pad 3.005 x 2.005mm, IPC High Density)
footprint TI-PWP20-3005X2005TP_M (SOP, 20-Leads, Body 6.5x4.4mm, Pitch 0.65mm, Thermal Pad 3.005 x 2.005mm, IPC Low Density)
pins: 1 NC "No connection", 2 VIN1 (power) "Input voltage of regulator 1", 3 VIN1 (power) "Input voltage of regulator 1", 4 ~{MR} (in) "Manual reset input, active low, pulled up internally", 5 ~{EN1} (in) "Active low enable for VOUT1", 6 ~{EN2} (in) "Active low enable for VOUT2", 7 ~{RESET} (hiz) "Open drain output, SVS (power-on reset) signal, active low", 8 GND (power) "Ground", 9 VIN2 (power) "Input voltage of regulator 2", 10 VIN2 (power) "Input voltage of regulator 2", 11 NC "No connection", 12 VOUT2 (power) "Output voltage of regulator 2", 13 VOUT2 (power) "Output voltage of regulator 2", 14 FB2 (in) "regulator 2 feedback for adjustable", 15 PG2 (hiz) "Open drain output, low when VOUT2 voltage is less than 95% of the nominal regulated voltage", 16 PG1 (hiz) "Open drain output, low when VOUT1 voltage is less than 95% of the nominal regulated voltage", 17 FB1 (in) "regulator 1 feedback for adjustable", 18 VOUT1 (power) "Output voltage of regulator 1", 19 VOUT1 (power) "Output voltage of regulator 1", 20 NC "No connection", 21 EP "Thermal pad"

## TPS70202PWPG4
designator U?
Dual Output LDO, 500 mA, 2.7 to 6 V Input, 20-pin HTSSOP (PWP), -40 to 125 degC, Green (RoHS & no Sb/Br); Manufacturer: Texas Instruments; PartNumber: TPS70202PWPG4; Iout(Max)(A): 0.5; Iout2(A): 0.2; Iq(Typ)(mA): 0.19; SubFamily: Dual Channel LDO; Vdo(Typ)(mV): 170; Vin(Max)(V): 6; Vin(Min)(V): 2.7; Vout2(Max)(V): 5.5; Vout2(Min)(V): 1.2; DatasheetVersion: SLVS286E; PackageVersion: 4073225-4/I; PackageReference: PWP20-3005X2005TP; PackageDescription: 20-Pin Plastic Small Outline, Body 6.50 x 4.40 mm, Pitch 0.65 mm; Supplier 1: Digi-Key; Supplier Part Number 1: TPS70202PWPG4-ND; Supplier 2: Mouser; Supplier Part Number 2: 595-TPS70202PWPG4; Eco-Plan: Green (RoHS & no Sb/Br); Mounting Technology: Surface Mount; Code_JEDEC: MO-153; ComponentLink1Description: Manufacturer URL; ComponentLink1URL: http://www.ti.com/; ComponentLink2Description: Datasheet; ComponentLink2URL: http://www.ti.com/general/docs/lit/getliterature.tsp?genericPartNumber=TPS70202&fileType=pdf; ComponentLink3Description: Package Specification; ComponentLink3URL: http://www.ti.com/lit/ml/mhts001g/mhts001g.pdf
footprint TI-PWP20-3005X2005TP_N (SOP, 20-Leads, Body 6.5x4.4mm, Pitch 0.65mm, Thermal Pad 3.005 x 2.005mm, IPC Medium Density)
footprint TI-PWP20-3005X2005TP_L (SOP, 20-Leads, Body 6.5x4.4mm, Pitch 0.65mm, Thermal Pad 3.005 x 2.005mm, IPC High Density)
footprint TI-PWP20-3005X2005TP_M (SOP, 20-Leads, Body 6.5x4.4mm, Pitch 0.65mm, Thermal Pad 3.005 x 2.005mm, IPC Low Density)
pins: 1 NC "No connection", 2 VIN1 (power) "Input voltage of regulator 1", 3 VIN1 (power) "Input voltage of regulator 1", 4 ~{MR} (in) "Manual reset input, active low, pulled up internally", 5 ~{EN1} (in) "Active low enable for VOUT1", 6 ~{EN2} (in) "Active low enable for VOUT2", 7 ~{RESET} (hiz) "Open drain output, SVS (power-on reset) signal, active low", 8 GND (power) "Ground", 9 VIN2 (power) "Input voltage of regulator 2", 10 VIN2 (power) "Input voltage of regulator 2", 11 NC "No connection", 12 VOUT2 (power) "Output voltage of regulator 2", 13 VOUT2 (power) "Output voltage of regulator 2", 14 FB2 (in) "regulator 2 feedback for adjustable", 15 PG2 (hiz) "Open drain output, low when VOUT2 voltage is less than 95% of the nominal regulated voltage", 16 PG1 (hiz) "Open drain output, low when VOUT1 voltage is less than 95% of the nominal regulated voltage", 17 FB1 (in) "regulator 1 feedback for adjustable", 18 VOUT1 (power) "Output voltage of regulator 1", 19 VOUT1 (power) "Output voltage of regulator 1", 20 NC "No connection", 21 EP "Thermal pad"

## TPS70202PWPR
designator U?
Dual Output LDO, 500 mA, 2.7 to 6 V Input, 20-pin HTSSOP (PWP), -40 to 125 degC, Green (RoHS & no Sb/Br); Manufacturer: Texas Instruments; PartNumber: TPS70202PWPR; Iout(Max)(A): 0.5; Iout2(A): 0.2; Iq(Typ)(mA): 0.19; SubFamily: Dual Channel LDO; Vdo(Typ)(mV): 170; Vin(Max)(V): 6; Vin(Min)(V): 2.7; Vout2(Max)(V): 5.5; Vout2(Min)(V): 1.2; DatasheetVersion: SLVS286E; PackageVersion: 4073225-4/I; PackageReference: PWP20-3005X2005TP; PackageDescription: 20-Pin Plastic Small Outline, Body 6.50 x 4.40 mm, Pitch 0.65 mm; Supplier 1: Digi-Key; Supplier Part Number 1: TPS70202PWPR-ND; Supplier 2: Mouser; Supplier Part Number 2: 595-TPS70202PWPR; Eco-Plan: Green (RoHS & no Sb/Br); Mounting Technology: Surface Mount; Code_JEDEC: MO-153; ComponentLink1Description: Manufacturer URL; ComponentLink1URL: http://www.ti.com/; ComponentLink2Description: Datasheet; ComponentLink2URL: http://www.ti.com/general/docs/lit/getliterature.tsp?genericPartNumber=TPS70202&fileType=pdf; ComponentLink3Description: Package Specification; ComponentLink3URL: http://www.ti.com/lit/ml/mhts001g/mhts001g.pdf
footprint TI-PWP20-3005X2005TP_N (SOP, 20-Leads, Body 6.5x4.4mm, Pitch 0.65mm, Thermal Pad 3.005 x 2.005mm, IPC Medium Density)
footprint TI-PWP20-3005X2005TP_L (SOP, 20-Leads, Body 6.5x4.4mm, Pitch 0.65mm, Thermal Pad 3.005 x 2.005mm, IPC High Density)
footprint TI-PWP20-3005X2005TP_M (SOP, 20-Leads, Body 6.5x4.4mm, Pitch 0.65mm, Thermal Pad 3.005 x 2.005mm, IPC Low Density)
pins: 1 NC "No connection", 2 VIN1 (power) "Input voltage of regulator 1", 3 VIN1 (power) "Input voltage of regulator 1", 4 ~{MR} (in) "Manual reset input, active low, pulled up internally", 5 ~{EN1} (in) "Active low enable for VOUT1", 6 ~{EN2} (in) "Active low enable for VOUT2", 7 ~{RESET} (hiz) "Open drain output, SVS (power-on reset) signal, active low", 8 GND (power) "Ground", 9 VIN2 (power) "Input voltage of regulator 2", 10 VIN2 (power) "Input voltage of regulator 2", 11 NC "No connection", 12 VOUT2 (power) "Output voltage of regulator 2", 13 VOUT2 (power) "Output voltage of regulator 2", 14 FB2 (in) "regulator 2 feedback for adjustable", 15 PG2 (hiz) "Open drain output, low when VOUT2 voltage is less than 95% of the nominal regulated voltage", 16 PG1 (hiz) "Open drain output, low when VOUT1 voltage is less than 95% of the nominal regulated voltage", 17 FB1 (in) "regulator 1 feedback for adjustable", 18 VOUT1 (power) "Output voltage of regulator 1", 19 VOUT1 (power) "Output voltage of regulator 1", 20 NC "No connection", 21 EP "Thermal pad"

## TPS70202PWPRG4
designator U?
Dual Output LDO, 500 mA, 2.7 to 6 V Input, 20-pin HTSSOP (PWP), -40 to 125 degC, Green (RoHS & no Sb/Br); Manufacturer: Texas Instruments; PartNumber: TPS70202PWPRG4; Iout(Max)(A): 0.5; Iout2(A): 0.2; Iq(Typ)(mA): 0.19; SubFamily: Dual Channel LDO; Vdo(Typ)(mV): 170; Vin(Max)(V): 6; Vin(Min)(V): 2.7; Vout2(Max)(V): 5.5; Vout2(Min)(V): 1.2; DatasheetVersion: SLVS286E; PackageVersion: 4073225-4/I; PackageReference: PWP20-3005X2005TP; PackageDescription: 20-Pin Plastic Small Outline, Body 6.50 x 4.40 mm, Pitch 0.65 mm; Supplier 1: Digi-Key; Supplier Part Number 1: TPS70202PWPRG4-ND; Supplier 2: Mouser; Supplier Part Number 2: 595-TPS70202PWPRG4; Eco-Plan: Green (RoHS & no Sb/Br); Mounting Technology: Surface Mount; Code_JEDEC: MO-153; ComponentLink1Description: Manufacturer URL; ComponentLink1URL: http://www.ti.com/; ComponentLink2Description: Datasheet; ComponentLink2URL: http://www.ti.com/general/docs/lit/getliterature.tsp?genericPartNumber=TPS70202&fileType=pdf; ComponentLink3Description: Package Specification; ComponentLink3URL: http://www.ti.com/lit/ml/mhts001g/mhts001g.pdf
footprint TI-PWP20-3005X2005TP_N (SOP, 20-Leads, Body 6.5x4.4mm, Pitch 0.65mm, Thermal Pad 3.005 x 2.005mm, IPC Medium Density)
footprint TI-PWP20-3005X2005TP_L (SOP, 20-Leads, Body 6.5x4.4mm, Pitch 0.65mm, Thermal Pad 3.005 x 2.005mm, IPC High Density)
footprint TI-PWP20-3005X2005TP_M (SOP, 20-Leads, Body 6.5x4.4mm, Pitch 0.65mm, Thermal Pad 3.005 x 2.005mm, IPC Low Density)
pins: 1 NC "No connection", 2 VIN1 (power) "Input voltage of regulator 1", 3 VIN1 (power) "Input voltage of regulator 1", 4 ~{MR} (in) "Manual reset input, active low, pulled up internally", 5 ~{EN1} (in) "Active low enable for VOUT1", 6 ~{EN2} (in) "Active low enable for VOUT2", 7 ~{RESET} (hiz) "Open drain output, SVS (power-on reset) signal, active low", 8 GND (power) "Ground", 9 VIN2 (power) "Input voltage of regulator 2", 10 VIN2 (power) "Input voltage of regulator 2", 11 NC "No connection", 12 VOUT2 (power) "Output voltage of regulator 2", 13 VOUT2 (power) "Output voltage of regulator 2", 14 FB2 (in) "regulator 2 feedback for adjustable", 15 PG2 (hiz) "Open drain output, low when VOUT2 voltage is less than 95% of the nominal regulated voltage", 16 PG1 (hiz) "Open drain output, low when VOUT1 voltage is less than 95% of the nominal regulated voltage", 17 FB1 (in) "regulator 1 feedback for adjustable", 18 VOUT1 (power) "Output voltage of regulator 1", 19 VOUT1 (power) "Output voltage of regulator 1", 20 NC "No connection", 21 EP "Thermal pad"

## TPS70245PWP
designator U?
Dual Output LDO, 500 mA, Fixed 3.3, 1.2 V Output, 2.7 to 6 V Input, 20-pin HTSSOP (PWP), -40 to 125 degC, Green (RoHS & no Sb/Br); Manufacturer: Texas Instruments; PartNumber: TPS70245PWP; Iout(Max)(A): 0.5; Iout2(A): 0.2; Iq(Typ)(mA): 0.19; SubFamily: Dual Channel LDO; Vdo(Typ)(mV): 170; Vin(Max)(V): 6; Vin(Min)(V): 2.7; Vout(Max)(V): 3.3; Vout2(Max)(V): 1.2; DatasheetVersion: SLVS286E; PackageVersion: 4073225-4/I; PackageReference: PWP20-3005X2005TP; PackageDescription: 20-Pin Plastic Small Outline, Body 6.50 x 4.40 mm, Pitch 0.65 mm; Supplier 1: Digi-Key; Supplier Part Number 1: 296-8017-5-ND; Supplier 2: Mouser; Supplier Part Number 2: 595-TPS70245PWP; Eco-Plan: Green (RoHS & no Sb/Br); Fixed Output Options(V): 3.3, 1.2; Vout(Min)(V): 3.3; Vout2(Min)(V): 1.2; Mounting Technology: Surface Mount; Code_JEDEC: MO-153; ComponentLink1Description: Manufacturer URL; ComponentLink1URL: http://www.ti.com/; ComponentLink2Description: Datasheet; ComponentLink2URL: http://www.ti.com/general/docs/lit/getliterature.tsp?genericPartNumber=TPS70245&fileType=pdf; ComponentLink3Description: Package Specification; ComponentLink3URL: http://www.ti.com/lit/ml/mhts001g/mhts001g.pdf
footprint TI-PWP20-3005X2005TP_N (SOP, 20-Leads, Body 6.5x4.4mm, Pitch 0.65mm, Thermal Pad 3.005 x 2.005mm, IPC Medium Density)
footprint TI-PWP20-3005X2005TP_L (SOP, 20-Leads, Body 6.5x4.4mm, Pitch 0.65mm, Thermal Pad 3.005 x 2.005mm, IPC High Density)
footprint TI-PWP20-3005X2005TP_M (SOP, 20-Leads, Body 6.5x4.4mm, Pitch 0.65mm, Thermal Pad 3.005 x 2.005mm, IPC Low Density)
pins: 1 NC "No connection", 2 VIN1 (power) "Input voltage of regulator 1", 3 VIN1 (power) "Input voltage of regulator 1", 4 ~{MR} (in) "Manual reset input, active low, pulled up internally", 5 ~{EN1} (in) "Active low enable for VOUT1", 6 ~{EN2} (in) "Active low enable for VOUT2", 7 ~{RESET} (hiz) "Open drain output, SVS (power-on reset) signal, active low", 8 GND (power) "Ground", 9 VIN2 (power) "Input voltage of regulator 2", 10 VIN2 (power) "Input voltage of regulator 2", 11 NC "No connection", 12 VOUT2 (power) "Output voltage of regulator 2", 13 VOUT2 (power) "Output voltage of regulator 2", 14 VSENSE2 (in) "Regulator 2 output voltage sense", 15 PG2 (hiz) "Open drain output, low when VOUT2 voltage is less than 95% of the nominal regulated voltage", 16 PG1 (hiz) "Open drain output, low when VOUT1 voltage is less than 95% of the nominal regulated voltage", 17 VSENSE1 (in) "Regulator 1 output voltage sense", 18 VOUT1 (power) "Output voltage of regulator 1", 19 VOUT1 (power) "Output voltage of regulator 1", 20 NC "No connection", 21 EP "Thermal pad"

## TPS70245PWPG4
designator U?
Dual Output LDO, 500 mA, Fixed 3.3, 1.2 V Output, 2.7 to 6 V Input, 20-pin HTSSOP (PWP), -40 to 125 degC, Green (RoHS & no Sb/Br); Manufacturer: Texas Instruments; PartNumber: TPS70245PWPG4; Iout(Max)(A): 0.5; Iout2(A): 0.2; Iq(Typ)(mA): 0.19; SubFamily: Dual Channel LDO; Vdo(Typ)(mV): 170; Vin(Max)(V): 6; Vin(Min)(V): 2.7; Vout(Max)(V): 3.3; Vout2(Max)(V): 1.2; DatasheetVersion: SLVS286E; PackageVersion: 4073225-4/I; PackageReference: PWP20-3005X2005TP; PackageDescription: 20-Pin Plastic Small Outline, Body 6.50 x 4.40 mm, Pitch 0.65 mm; Supplier 1: Digi-Key; Supplier Part Number 1: TPS70245PWPG4-ND; Supplier 2: Mouser; Supplier Part Number 2: 595-TPS70245PWPG4; Eco-Plan: Green (RoHS & no Sb/Br); Fixed Output Options(V): 3.3, 1.2; Vout(Min)(V): 3.3; Vout2(Min)(V): 1.2; Mounting Technology: Surface Mount; Code_JEDEC: MO-153; ComponentLink1Description: Manufacturer URL; ComponentLink1URL: http://www.ti.com/; ComponentLink2Description: Datasheet; ComponentLink2URL: http://www.ti.com/general/docs/lit/getliterature.tsp?genericPartNumber=TPS70245&fileType=pdf; ComponentLink3Description: Package Specification; ComponentLink3URL: http://www.ti.com/lit/ml/mhts001g/mhts001g.pdf
footprint TI-PWP20-3005X2005TP_N (SOP, 20-Leads, Body 6.5x4.4mm, Pitch 0.65mm, Thermal Pad 3.005 x 2.005mm, IPC Medium Density)
footprint TI-PWP20-3005X2005TP_L (SOP, 20-Leads, Body 6.5x4.4mm, Pitch 0.65mm, Thermal Pad 3.005 x 2.005mm, IPC High Density)
footprint TI-PWP20-3005X2005TP_M (SOP, 20-Leads, Body 6.5x4.4mm, Pitch 0.65mm, Thermal Pad 3.005 x 2.005mm, IPC Low Density)
pins: 1 NC "No connection", 2 VIN1 (power) "Input voltage of regulator 1", 3 VIN1 (power) "Input voltage of regulator 1", 4 ~{MR} (in) "Manual reset input, active low, pulled up internally", 5 ~{EN1} (in) "Active low enable for VOUT1", 6 ~{EN2} (in) "Active low enable for VOUT2", 7 ~{RESET} (hiz) "Open drain output, SVS (power-on reset) signal, active low", 8 GND (power) "Ground", 9 VIN2 (power) "Input voltage of regulator 2", 10 VIN2 (power) "Input voltage of regulator 2", 11 NC "No connection", 12 VOUT2 (power) "Output voltage of regulator 2", 13 VOUT2 (power) "Output voltage of regulator 2", 14 VSENSE2 (in) "Regulator 2 output voltage sense", 15 PG2 (hiz) "Open drain output, low when VOUT2 voltage is less than 95% of the nominal regulated voltage", 16 PG1 (hiz) "Open drain output, low when VOUT1 voltage is less than 95% of the nominal regulated voltage", 17 VSENSE1 (in) "Regulator 1 output voltage sense", 18 VOUT1 (power) "Output voltage of regulator 1", 19 VOUT1 (power) "Output voltage of regulator 1", 20 NC "No connection", 21 EP "Thermal pad"

## TPS70245PWPR
designator U?
Dual Output LDO, 500 mA, Fixed 3.3, 1.2 V Output, 2.7 to 6 V Input, 20-pin HTSSOP (PWP), -40 to 125 degC, Green (RoHS & no Sb/Br); Manufacturer: Texas Instruments; PartNumber: TPS70245PWPR; Iout(Max)(A): 0.5; Iout2(A): 0.2; Iq(Typ)(mA): 0.19; SubFamily: Dual Channel LDO; Vdo(Typ)(mV): 170; Vin(Max)(V): 6; Vin(Min)(V): 2.7; Vout(Max)(V): 3.3; Vout2(Max)(V): 1.2; DatasheetVersion: SLVS286E; PackageVersion: 4073225-4/I; PackageReference: PWP20-3005X2005TP; PackageDescription: 20-Pin Plastic Small Outline, Body 6.50 x 4.40 mm, Pitch 0.65 mm; Supplier 1: Digi-Key; Supplier Part Number 1: TPS70245PWPR-ND; Supplier 2: Mouser; Supplier Part Number 2: 595-TPS70245PWPR; Eco-Plan: Green (RoHS & no Sb/Br); Fixed Output Options(V): 3.3, 1.2; Vout(Min)(V): 3.3; Vout2(Min)(V): 1.2; Mounting Technology: Surface Mount; Code_JEDEC: MO-153; ComponentLink1Description: Manufacturer URL; ComponentLink1URL: http://www.ti.com/; ComponentLink2Description: Datasheet; ComponentLink2URL: http://www.ti.com/general/docs/lit/getliterature.tsp?genericPartNumber=TPS70245&fileType=pdf; ComponentLink3Description: Package Specification; ComponentLink3URL: http://www.ti.com/lit/ml/mhts001g/mhts001g.pdf
footprint TI-PWP20-3005X2005TP_N (SOP, 20-Leads, Body 6.5x4.4mm, Pitch 0.65mm, Thermal Pad 3.005 x 2.005mm, IPC Medium Density)
footprint TI-PWP20-3005X2005TP_L (SOP, 20-Leads, Body 6.5x4.4mm, Pitch 0.65mm, Thermal Pad 3.005 x 2.005mm, IPC High Density)
footprint TI-PWP20-3005X2005TP_M (SOP, 20-Leads, Body 6.5x4.4mm, Pitch 0.65mm, Thermal Pad 3.005 x 2.005mm, IPC Low Density)
pins: 1 NC "No connection", 2 VIN1 (power) "Input voltage of regulator 1", 3 VIN1 (power) "Input voltage of regulator 1", 4 ~{MR} (in) "Manual reset input, active low, pulled up internally", 5 ~{EN1} (in) "Active low enable for VOUT1", 6 ~{EN2} (in) "Active low enable for VOUT2", 7 ~{RESET} (hiz) "Open drain output, SVS (power-on reset) signal, active low", 8 GND (power) "Ground", 9 VIN2 (power) "Input voltage of regulator 2", 10 VIN2 (power) "Input voltage of regulator 2", 11 NC "No connection", 12 VOUT2 (power) "Output voltage of regulator 2", 13 VOUT2 (power) "Output voltage of regulator 2", 14 VSENSE2 (in) "Regulator 2 output voltage sense", 15 PG2 (hiz) "Open drain output, low when VOUT2 voltage is less than 95% of the nominal regulated voltage", 16 PG1 (hiz) "Open drain output, low when VOUT1 voltage is less than 95% of the nominal regulated voltage", 17 VSENSE1 (in) "Regulator 1 output voltage sense", 18 VOUT1 (power) "Output voltage of regulator 1", 19 VOUT1 (power) "Output voltage of regulator 1", 20 NC "No connection", 21 EP "Thermal pad"